# EAGLE library part VREG_TPS768XX_ULDO_FAST-TRANSIENT (library PiB_ic_power)
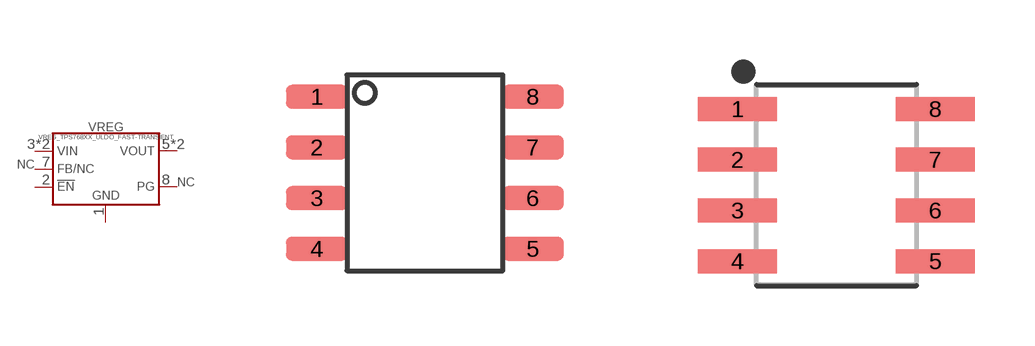
[diagram p1: symbol with the pads of SOIC-8_W3.9MM; footprints SOIC-8_W3.9MM, SOIC127P600X265-8]

Designator prefix VREG

## VREG_TPS768XX_ULDO_FAST-TRANSIENTTPS76833QDR_1A-3.3V (CREATOR: MrSwirlyEyes; DATASHEET: http://www.ti.com/lit/ds/symlink/tps768.pdf; DIST: Digikey; DISTLINK: https://www.digikey.com/products/en?keywords=296-46395-1-ND; DISTPN: 296-46395-1-ND; MFR: Texas Instruments; MPN: TPS76833QDR; VALUE: 1A/3.3V)  [SOIC-8_W3.9MM]
1  GND  pwr
2  !EN  pwr
3  VIN  pwr
4  VIN  pwr
5  VOUT  pwr
6  VOUT  pwr
7  FB/NC
8  PG  nc

## VREG_TPS768XX_ULDO_FAST-TRANSIENT_TPS76833QDR_1A-3.3V (DATASHEET: http://www.ti.com/lit/ds/symlink/tps768.pdf; DIST: Digikey; DISTLINK: https://www.digikey.com/products/en?keywords=296-46395-1-ND; DISTPN: 296-46395-1-ND; MFR: Texas Instruments; MPN: TPS76833QDR; VALUE: TPS76833QDR 1A/3.3V)  [SOIC127P600X265-8]
Pads as for SOIC-8_W3.9MM

## VREG_TPS768XX_ULDO_FAST-TRANSIENT_TPS76830QDR_1A-3.0V (DATASHEET: http://www.ti.com/lit/ds/symlink/tps768.pdf; DIST: Digikey; DISTLINK: https://www.digikey.com/products/en?keywords=296-2749-5-ND; DISTPN: 296-2749-5-ND; MFR: Texas Instruments; MPN: TPS76830QD; VALUE: TPS76830QD 1A/3V)  [SOIC127P600X265-8]
Pads as for SOIC-8_W3.9MM

## Footprint SOIC-8_W3.9MM (pad centres in mm)
smd 1.55 x 0.6: 1 -2.7,1.905; 2 -2.7,0.635; 3 -2.7,-0.635; 4 -2.7,-1.905; 5 2.7,-1.905; 6 2.7,-0.635; 7 2.7,0.635; 8 2.7,1.905

## Footprint SOIC127P600X265-8 (pad centres in mm)
8-SOIC, 1.27 mm pitch, 6 mm span, 4.9 X 3.9 X 2.65 mm body 8-pin SOIC package with 1.27 mm pitch, 6 mm span with body size 4.9 X 3.9 X 2.65 mm
smd 1.968 x 0.599: 1 -2.473,1.905; 2 -2.473,0.635; 3 -2.473,-0.635; 4 -2.473,-1.905; 5 2.473,-1.905; 6 2.473,-0.635; 7 2.473,0.635; 8 2.473,1.905